# Altium schematic symbol library WULPUS_HV_PCB_V2.SCHLIB: 39 symbols
Pins are listed as number, name and electrical type; pins without a type are passive.

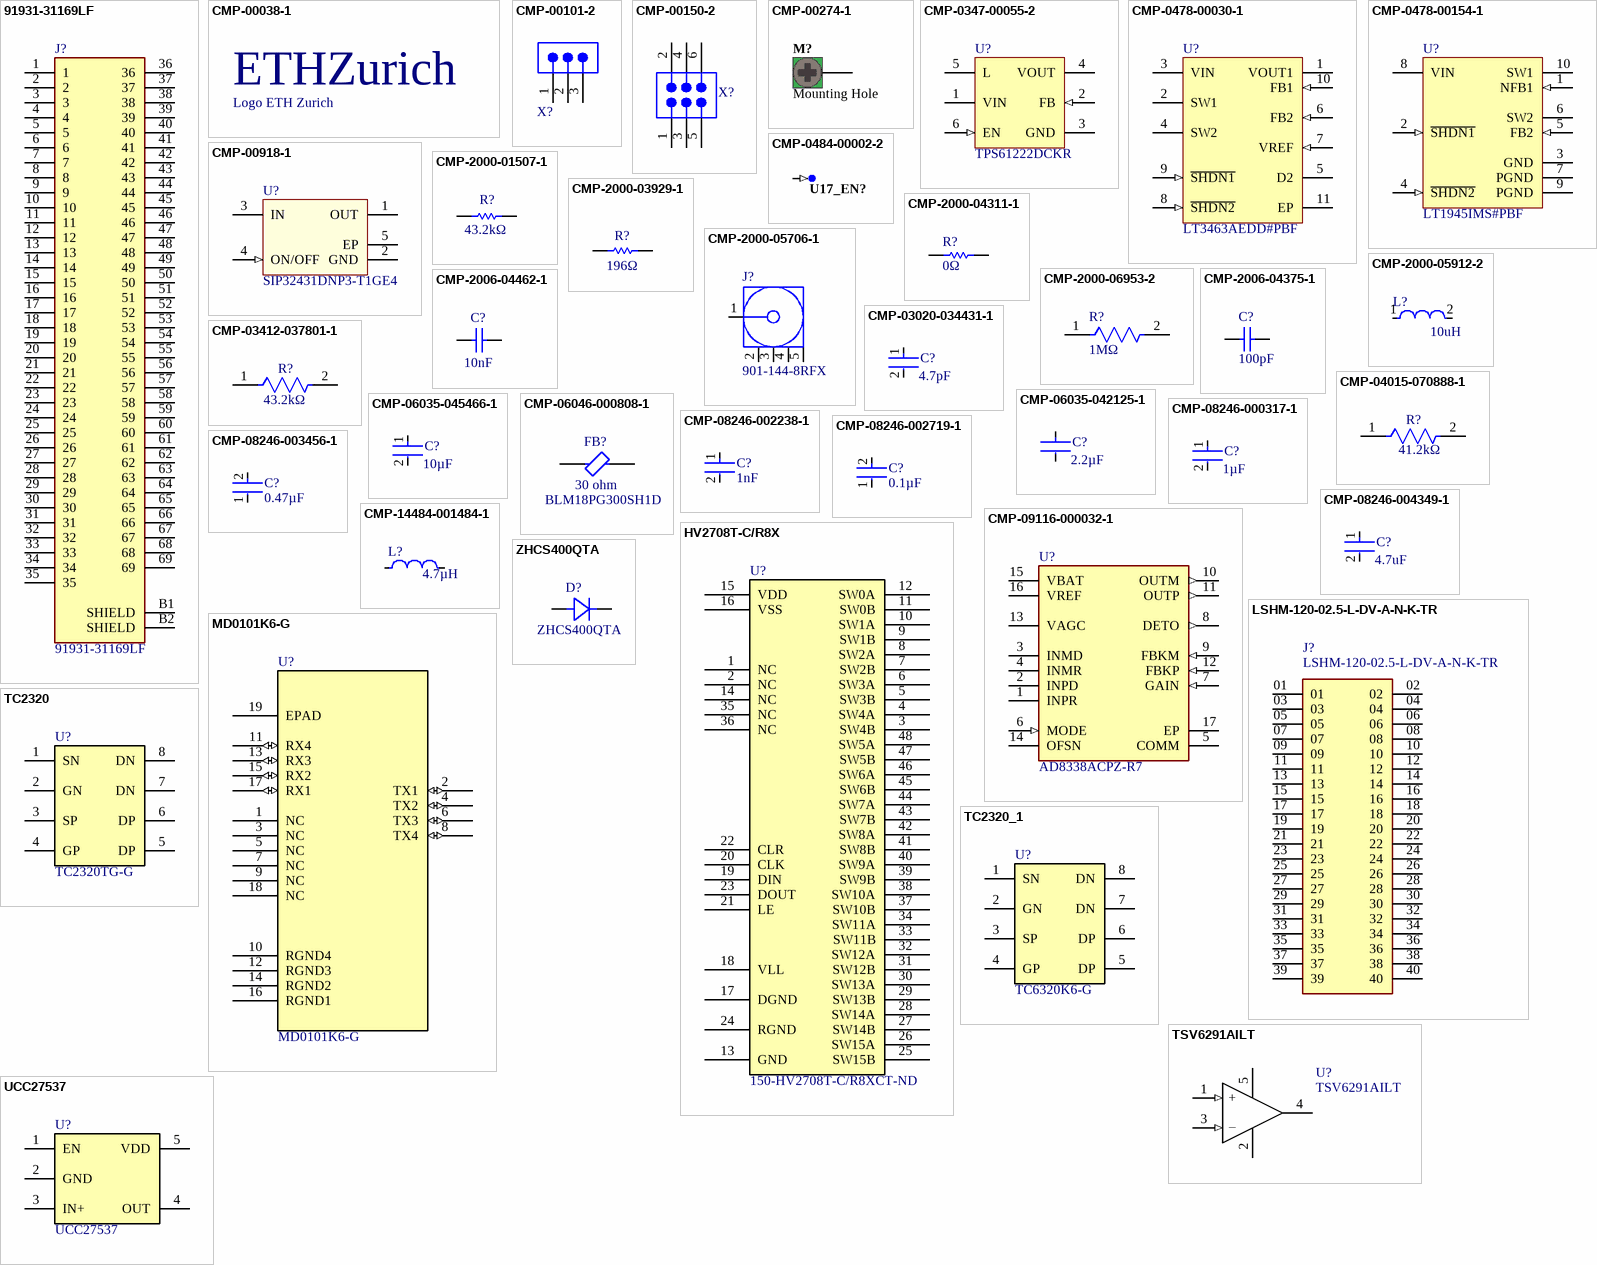
[diagram p0: symbols 91931-31169LF to ZHCS400QTA]

## 91931-31169LF
designator J?
Conn; Rect; Industrial; MezzanineRECP; 69Cnts; SMT; I-IndustrialSeries; Package: None; Price: None; Value: *; MP: 91931-31169LF; Availability: Unavailable
footprint FRAMETOME_91931-31169LF
footprint FRAMETOME_91931-31169LF
pins: 1, 2, 3, 4, 5, 6, 7, 8, 9, 10, 11, 12, 13, 14, 15, 16, 17, 18, 19, 20, 21, 22, 23, 24, 25, 26, 27, 28, 29, 30, 31, 32, 33, 34, 35, 36, 37, 38, 39, 40, 41, 42, 43, 44, 45, 46, 47, 48, 49, 50, 51, 52, 53, 54, 55, 56, 57, 58, 59, 60, 61, 62, 63, 64, 65, 66, 67, 68, 69, B1 SHIELD, B2 SHIELD

## CMP-00038-1
designator A?, comment Logo ETH Zurich  (no BOM)
footprint eth-zurich_2mm (Logo ETH Zurich)
footprint eth-zurich_4mm (Logo ETH Zurich)
footprint eth-zurich_5mm (Logo ETH Zurich)
footprint eth-zurich_3mm (Logo ETH Zurich)
text: ETHZurich

## CMP-00101-2
designator X?, comment 68000-103HLF  (value not drawn)
3 Positions Header, Unshrouded Connector 0.100" (2.54mm) Through Hole Gold or Gold, GXT™; Manufacturer: Amphenol FCI; Manufacturer: Amphenol ICC / FCI; Manufacturer Part Number: 68000-203HLF; Current Rating: 3A; Insulation Resistance: 5GR; Number of Positions: 3; Max Voltage Rating (AC): 1.5kV; Termination: Solder; Fastening Type: -; Features: -; Contact Finish: Gold or Gold, GXT™; Contact Finish Thickness: 15µin (0.38µm); Color: Black; Supplier: Digikey; Supplier Part Number: 609-3461-ND; ComponentLink1Description: 68000-274283-5157301.pdf; ComponentLink1URL: https://datasheet.ciiva.com/5157/68000-274283-5157301.pdf; Depth: 2.41mm; Flammability Rating: UL94 V-0; Housing Colour: Black; Housing Material: Thermoplastic; Length: 7.62mm; Manufacturer Part Number: 68000-103HLF; Max Operating Temperature: 125°C; Packaging: Bulk; Contact Type: Male Pin; Connector Type: Header, Unshrouded; Pitch: 2.54mm; Number of Rows: 1; Contact Mating Length: 0.230" (5.84mm); Mounting Type: Through Hole; Min Operating Temperature: -65°C; Number of Contacts: 3; Orientation: Straight; Package Quantity: 100; Radiation Hardening: No; REACH SVHC: No SVHC; Termination Post Length: 2.41mm; Voltage Rating: 1.5kV; Contact Gender: Male; Contact Material: Bronze; Contact Plating: Nickel,Gold,GXT; ComponentLink2Description: 68000-731071.pdf; ComponentLink2URL: https://datasheet.ciiva.com/731/68000-731071.pdf; ComponentLink3Description: 68000-10149754.pdf; ComponentLink3URL: https://datasheet.ciiva.com/10149/68000-10149754.pdf; ComponentLink4Description: 1914865-46392021.pdf; ComponentLink4URL: https://datasheet.ciiva.com/46392/1914865-46392021.pdf
footprint 68000-103HLF (Terminal Assembly, 3 Pin, Vertical, 2.54mm Pitch, Male)
pins: 1, 2, 3

## CMP-00150-2
designator X?, comment 67996-106HLF  (value not drawn)
6 Positions Header, Unshrouded Connector 0.100" (2.54mm) Through Hole Gold or Gold, GXT™; Manufacturer: Amphenol FCI; Manufacturer: Amphenol ICC / FCI; Manufacturer Part Number: 67996-206HLF; Connector Type: Male Pin; Number of Positions: 6; Row Spacing: 0.1inch; Current Rating: 3A; Gender: Male; Insulation Resistance: 5GR; Mating Post Length: 5.84mm; Max Voltage Rating (AC): 1.5kV; Packaging: Bulk; Pitch: 2.54mm; Number of Rows: 2; Contact Mating Length: 0.23inch; Termination: Solder; Manufacturer Part Number: 67996-106HLF; Supplier: Digikey; Supplier Part Number: 609-3202-ND; ComponentLink1Description: 67996-16726269.pdf; ComponentLink1URL: https://datasheet.ciiva.com/16726/67996-16726269.pdf; Case/Package: 100; Colour: Black; ComponentLink2Description: 1876884-46393071.pdf; ComponentLink2URL: https://datasheet.ciiva.com/46393/1876884-46393071.pdf; ComponentLink3Description: 67996-728918.pdf; ComponentLink3URL: https://datasheet.ciiva.com/728/67996-728918.pdf; ComponentLink4Description: 67996-10149181.pdf; ComponentLink4URL: https://datasheet.ciiva.com/10149/67996-10149181.pdf; Contact Gender: Male; Contact Material: Bronze; Contact Plating: Nickel,Gold,GXT; Depth: 4.83mm; Flammability Rating: UL94 V-0; Housing Colour: Black; Housing Material: Thermoplastic; Length: 7.62mm; Max Operating Temperature: 125°C; Min Operating Temperature: -65°C; Number of Contacts: 6; Orientation: Straight; Package Quantity: 100; Radiation Hardening: No; REACH SVHC: No SVHC; Termination Post Length: 2.41mm; Voltage Rating: 1.5kV
footprint 67996-106HLF (Terminal Assembly, 2x3 Pin, Vertical, 2.54mm Pitch, Male)
pins: 1, 2, 3, 4, 5, 6

## CMP-00274-1
designator M?, comment Mounting Hole  (no BOM)
M2 Hole, 2.4mm drill, 5mm landing pads, 3mm pad in middle layers, no overlay; ClassName: Mounting Hole
footprint Mounting Hole (M2 Hole, 2.4mm drill, 5mm landing pads, 3mm pad in middle layers, no overlay)
pins: 1

## CMP-0347-00055-2
designator U?, comment TPS61222DCKR
Boost Voltage Converter with 0.7 to 5.5 V Input and 5 V Output, -40 to 85 degC, 6-Pin SC70 (DCK), Green (RoHS & no Sb/Br); Manufacturer: Texas Instruments; Vout(Min)(V): 5; SubFamily: Step-Up Regulator; Vin(Min)(V): 0.7; Switching Frequency(Max)(kHz): 2000; Regulated Outputs(#): 1; Vin(Max)(V): 5.5; Topology: Boost; Vout(Max)(V): 5; PackageVersion: revG, Jan-2007; Mounting Technology: Surface Mount; ComponentLink2URL: http://www.ti.com/litv/pdf/mpds114c; PackageReference: DCK0006A; DatasheetVersion: SLVS776; PartNumber: TPS61222DCKR; ComponentLink1Description: Datasheet; ComponentLink1URL: http://www.ti.com/general/docs/lit/getliterature.tsp?genericPartNumber=TPS61222&fileType=pdf; ComponentLink2Description: Package Specification; Eco-Plan: Green (RoHS & no Sb/Br); Code_JEDEC: MO-203-AB; PackageDescription: 6-Pin Plastic Small-Outline Package, 2 x 1.3 mm Body, 0.65 mm Pitch, 2.1 mm Lead Span; Manufacturer Part Number: TPS61222DCKR
footprint DCK0006A_L (SOT23, 6-Leads, Body 2.15x1.4mm, Pitch 0.65mm, IPC High Density)
footprint DCK0006A_N (SOT23, 6-Leads, Body 2.15x1.4mm, Pitch 0.65mm, IPC Medium Density)
footprint DCK0006A_M (SOT23, 6-Leads, Body 2.15x1.4mm, Pitch 0.65mm, IPC Low Density)
pins: 1 VIN (power) "Boost converter input voltage", 2 FB (in) "Voltage feedback of adjustable version. Must be connected to VOUT at fixed output voltage versions.", 3 GND (power) "Control / logic and power ground", 4 VOUT (power) "Boost converter output voltage", 5 L (power) "Connection for Inductor", 6 EN (in) "Enable input (1: enabled, 0: disabled). Must be actively tied high or low."

## CMP-0478-00030-1
designator U?, comment LT3463AEDD#PBF
Dual Micropower DC/DC Converters with Schottky Diodes, 2.4 to 15 V Vin, 10-pin SON (DD-10), -40 to 85 degC, Pb-Free; Manufacturer: Linear Technology; Manufacturer: Analog Devices / Linear Technology; Vin Max(V): 15; Number of Outputs: 2; Vin Min(V): 2.4; ComponentLink3URL: http://cds.linear.com/docs/en/packaging/DFN_10_05-08-1699.pdf; ComponentLink2URL: http://cds.linear.com/docs/en/datasheet/3463f.pdf; PackageReference: DD-10; PackageVersion: Rev. C, 06/2010; ComponentLink1URL: http://www.linear.com/; RoHS: TRUE; ComponentLink3Description: Package Specification; Mounting Technology: Surface Mount; PartNumber: LT3463AEDD#PBF; Code_JEDEC: MO-229; ComponentLink2Description: Datasheet; PackageDescription: 10-Pin Plastic DFN, Body 3 x 3 mm, Pitch 0.5 mm; ComponentLink1Description: Manufacturer URL; Manufacturer Part Number: LT3463AEDD#PBF
footprint LT-DD-10_V (SON, 10-Leads, Body 3x3mm, Pitch 0.5mm, Thermal Pad 2.38x1.65mm)
pins: 1 VOUT1 (power) "Output Voltage Switcher 1. This is the cathode of an internal Schottky diode whose anode is connected to the SW1 pin.", 2 SW1 "Switch Pin for Switcher 1. This is the collector of the internal NPN switch. Minimize the metal trace area connected to this pin to minimize EMI.", 3 VIN (power) "Input Supply Pin. Bypass this pin with a capacitor as close to the device as possible.", 4 SW2 "Switch Pin for Switcher 2. This is the collector of the internal NPN switch. Minimize the metal trace area connected to this pin to minimize EMI.", 5 D2 "Diode for Switcher 2. This is the anode of an internal Schottky diode whose cathode connected to the GND pin.", 6 FB2 (in) "Feedback Pin for Switcher 2. Set the output voltage by selecting values for R3 and R4.", 7 VREF (in) "Voltage Reference Pin (1.25V). This pin is used along with FB2 to set the negative output voltage for Switcher 2.", 8 ~{SHDN2} (in) "Shutdown Pin for Switcher 2. Pull this pin above 1.5V to enable Switcher 2. Pull below 0.3V to turn it off. Do not leave this pin floating.", 9 ~{SHDN1} (in) "Shutdown Pin for Switcher 1. Pull this pin above 1.5V to enable Switcher 1. Pull below 0.3V to turn it off. Do not leave this pin floating.", 10 FB1 (in) "Feedback Pin for Switcher 1. Set the output voltage by selecting values for R1 and R2.", 11 EP (power) "Exposed Pad. Solder this exposed pad directly to the local ground plane. This pad must be electrically connected for proper operation."

## CMP-0478-00154-1
designator U?, comment LT1945IMS#PBF
Dual Micropower DC/DC Converter with Positive and Negative Outputs, 1.2 to 15 V Vin, 10-pin SOP (MS-10), -40 to 125 degC, Pb-Free; Manufacturer: Linear Technology; Manufacturer: Analog Devices / Linear Technology; Vin Min(V): 1.2; Vin Max(V): 15; Number of Outputs: 2; Mounting Technology: Surface Mount; ComponentLink3Description: Package Specification; ComponentLink3URL: http://cds.linear.com/docs/en/packaging/05081661_F_MS.pdf; PackageVersion: Rev. E, 06/2010; ComponentLink2URL: http://cds.linear.com/docs/en/datasheet/1945fa.pdf; PartNumber: LT1945IMS#PBF; DatasheetVersion: Rev. A; PackageReference: MS-10; PackageDescription: 10-Pin Plastic MSOP, Body 3 x 3 mm, Pitch 0.5 mm; ComponentLink2Description: Datasheet; RoHS: TRUE; ComponentLink1URL: http://www.linear.com/; ComponentLink1Description: Manufacturer URL; Manufacturer Part Number: LT1945IMS#PBF
footprint LT-MS-10_L (SOP, 10-Leads, Body 3.1x3.1mm, Pitch 0.5mm, IPC High Density)
footprint LT-MS-10_M (SOP, 10-Leads, Body 3.1x3.1mm, Pitch 0.5mm, IPC Low Density)
footprint LT-MS-10_N (SOP, 10-Leads, Body 3.1x3.1mm, Pitch 0.5mm, IPC Medium Density)
pins: 1 NFB1 (in) "Feedback Pin for Switcher 1. Set the output voltage by selecting values for R1 and R2.", 2 ~{SHDN1} (in) "Shutdown Pin for Switcher 1. Tie this pin to 0.9V or higher to enable device. Tie below 0.25V to turn it off.", 3 GND (power) "Ground. Tie this pin directly to the local ground plane.", 4 ~{SHDN2} (in) "Shutdown Pin for Switcher 2. Tie this pin to 0.9V or higher to enable device. Tie below 0.25V to turn it off.", 5 FB2 (in) "Feedback Pin for Switcher 2. Set the output voltage by selecting values for R1B and R2B.", 6 SW2 (power) "Switch Pin for Switcher 2. This is the collector of the internal NPN power switch. Minimize the metal trace area connected to the pin to minimize EMI.", 7 PGND (power) "Power Ground. Tie these pins directly to the local ground plane. Both pins must be tied.", 8 VIN (power) "Input Supply Pin. Bypass this pin with a capacitor as close to the device as possible.", 9 PGND (power) "Power Ground. Tie these pins directly to the local ground plane. Both pins must be tied.", 10 SW1 (power) "Switch Pin for Switcher 1. This is the collector of the internal NPN power switch. Minimize the metal trace area connected to the pin to minimize EMI."

## CMP-0484-00002-2
designator U17_EN?, comment TP-SM-C-100  (value not drawn)  (no BOM)
Test Point, Surface Mount, Circular, Pad Diameter 1 mm; Manufacturer: No Vendor; Manufacturer: ALTIUM; PartNumber: TP-SM-C-100; Manufacturer Part Number: TP-SM-C-100
footprint TP-SM-C-100 (Test Point, Surface Mounting, Circular, Pad Diameter 1mm)
pins: 1 (in)

## CMP-00918-1
designator U?, comment SIP32431DNP3-T1GE4
Power Switch ICs - Power Distribution 1A Slew Rate Ctrl Load Switch; Manufacturer: Vishay Siliconix; Number of Outputs: 1; Max Power Dissipation: 324mW; Max Supply Voltage: 5.5V; Min Supply Voltage: 1.1V; Interface: On/Off; Max Output Current: 1.4A; On-State Resistance: 520mR; Turn-Off Delay Time: 10us; Turn-On Delay Time: 40us; Fault Protection: Reverse Current; Output Configuration: High Side; Mount: Surface Mount; Number of Pins: 4; Weight: 0.001764oz; Min Operating Temperature: -40°C; Max Operating Temperature: 85°C; Output Current: 1A; Packaging: Tape and Reel; Package Quantity: 3000; Power Dissipation: 324mW; Radiation Hardening: No; Lead Free: Lead Free; Manufacturer Part Number: SIP32431DNP3-T1GE4
footprint TDFN-4_V (TDFN, 4-Leads, Body 1.2x1.6mm, Pitch 0.5mm, Thermal Pad 0.86x0.5mm)
pins: 1 OUT (power), 2 GND (power), 3 IN (power), 4 ON/OFF (in), 5 EP (power)

## CMP-2000-01507-1
designator R?, comment Resistance: 43.2kΩ  (hidden comment: RK73H1JTTD4322F)
Manufacturer: KOA Speer; Part Number: RK73H1JTTD4322F; Manufacturer Part Number: RK73H1JTTD4322F
footprint RESC1608X55X30ML20T10 (Chip Resistor, 2-Leads, Body 1.60x0.80mm, IPC Low Density)
footprint RESC1608X55X30LL20T10 (Chip Resistor, 2-Leads, Body 1.60x0.80mm, IPC High Density)
footprint RESC1608X55X30NL20T10 (Chip Resistor, 2-Leads, Body 1.60x0.80mm, IPC Medium Density)
pins: 1, 2
1 alternate drawing of the same symbol

## CMP-2000-03929-1
designator R?, comment Resistance: 196Ω  (hidden comment: RC0603FR-07196RL)
Manufacturer: Yageo; Part Number: RC0603FR-07196RL; Manufacturer Part Number: RC0603FR-07196RL
footprint RESC1608X55X25NL10T15 (Chip Resistor, 2-Leads, Body 1.60x0.80mm, IPC Medium Density)
footprint RESC1608X55X25ML10T15 (Chip Resistor, 2-Leads, Body 1.60x0.80mm, IPC Low Density)
footprint RESC1608X55X25LL10T15 (Chip Resistor, 2-Leads, Body 1.60x0.80mm, IPC High Density)
pins: 1, 2
1 alternate drawing of the same symbol

## CMP-2000-04311-1
designator R?, comment Resistance: 0Ω  (hidden comment: RC0603JR-130RL)
Manufacturer: Yageo; Part Number: RC0603JR-130RL; Manufacturer Part Number: RC0603JR-130RL
footprint RESC1608X55X25NL10T15 (Chip Resistor, 2-Leads, Body 1.60x0.80mm, IPC Medium Density)
footprint RESC1608X55X25LL10T15 (Chip Resistor, 2-Leads, Body 1.60x0.80mm, IPC High Density)
footprint RESC1608X55X25ML10T15 (Chip Resistor, 2-Leads, Body 1.60x0.80mm, IPC Low Density)
pins: 1, 2
1 alternate drawing of the same symbol

## CMP-2000-05706-1
designator J?, comment 901-144-8RFX
Coaxial Connector, 18 GHz, 50 Ohm, -65 to 165 degC, 5-Pin THD, RoHS, Bulk; Manufacturer: Amphenol; Manufacturer: Amphenol RF; Contact Termination: Solder; Dielectric Material: Polytetrafluoroethylene(PTFE); Frequency - Max: 18GHz; Body Material: Brass; Other Names: 901-144-8-RFX9011448RFXARFX1231; Center Contact Plating: Gold; Connector Type: Jack,FemaleSocket; Center Contact Material: BerylliumCopper; Impedance: 50Ohm; 3D Model: 901-144-8RFX.igs; Online Catalog: SMA,RFX; Connector Style: SMA; Category: Connectors,Interconnects; Housing Color: Gold; Mounting Type: ThroughHole; Ingress Protection: -; Packaging: Bulk; Features: -; Fastening Type: Threaded; Series: -; Standard Package: 1; Shield Termination: Solder; Mounting Technology: SurfaceMount; Family: CoaxialConnectors(RF); Package Reference: 901-144-8RFX; Datasheet URL: https://datasheet.ciiva.com/23676/c901-144-8rfx-23676337.pdf; Package Description: 5-Pin Through Hole Device, Body 7 x 7 mm, Pitch 2.54 mm; Cable Group: -; Datasheet Version: Rev. A, 01/2001; Body Finish: Gold; Operating Temperature: -65°C~165°C; Voltage Rating: -; Manufacturer URL: http://www.amphenol.com/; Manufacturer Part Number: 901-144-8RFX
footprint AMPH-901-144-8RFX_V (THD, 5-Leads, Body 7x7mm, Pitch 2.54mm)
pins: 1, 2, 3, 4, 5

## CMP-2000-05912-2
designator L?, comment Inductance: 10uH  (hidden comment: B82422A1103K100)
FIXED IND 10UH 180MA 1.6 OHM SMD; Manufacturer: TDK EPCOS; Tolerance: 10%; DC Resistance (DCR): 1.6R; Shielding: Unshielded; Core Material: Ferrite; Q Factor: 27; Self Resonant Frequency: 25MHz; Test Frequency: 1MHz; Series: SIMID; Current Rating: 180mA; Ratings: AEC-Q200; Height - Seated (Max): 0.083inch; Packaging: Tape and Reel; Radiation Hardening: No; REACH SVHC: No SVHC; Width: 0.098inch; RoHS Compliant: Yes; Case/Package: 1210; DC Current: 180mA; Package Quantity: 2000; Rated Current-Max: 180mA; Mount: Surface Mount; Depth: 2.8mm; Resistor Type: Wirewound; Max DC Current: 180mA; Termination: SMD/SMT; Contact Plating: Tin; Height: 2.1mm; Case Code (Metric): 3225; Lead Free: Lead Free; Weight: 0.001764oz; Max Operating Temperature: 125°C; Length: 3.5mm; Case Code (Imperial): 1210; Inductance Tolerance: 10%; Series Resistance: 1.6R; Number of Pins: 2; Military Standard: Not; Manufacturer Part Number: B82422A1103K100
footprint FP-B82422A-MFG
pins: 1, 2

## CMP-2000-06953-2
designator R?, comment Resistance: 1MΩ  (hidden comment: RC0603JR-071ML)
RES SMD 1M OHM 5% 1/10W 0603; Manufacturer: Yageo; Voltage Rating (DC): 50V; Power Rating: 100mW; Temperature Coefficient: 100ppm/°C; Features: Moisture Resistant; Package Quantity: 5000; Case Code (Imperial): 0603; Packaging: Tape and Reel; Resistor Type: Thick Film; Number of Pins: 2; Size Code: 0603; Resistance Tolerance: 5%; Max Operating Temperature: 155°C; Voltage Rating: 50V; Depth: 0.8mm; Termination: SMD/SMT; Width: 0.8mm; RoHS Compliant: Yes; Number of Terminations: 2; Height: 0.45mm; Lead Free: Lead Free; Case/Package: 0603; Military Standard: Not; Min Operating Temperature: -55°C; Case Code (Metric): 1608; Radiation Hardening: No; Series: RC; Length: 1.6mm; Tolerance: 5%; REACH SVHC: No SVHC; Contact Plating: Tin; Construction: Rectangular; Max Power Dissipation: 100mW; Manufacturer Part Number: RC0603JR-071ML
footprint FP-RC0603-0_55-IPC_C
footprint FP-RC0603-0_55-IPC_A
footprint FP-RC0603-0_55-MFG
footprint FP-RC0603-0_55-IPC_B
pins: 1, 2

## CMP-2006-04375-1
designator C?, comment Capacitance: 100pF  (hidden comment: 06035C101KAT2A)
Manufacturer: AVX Interconnect / Elco; Manufacturer: Kyocera AVX; Part Number: 06035C101KAT2A; Manufacturer Part Number: 06035C101KAT2A
footprint CAPC1608X90X35LL15T15 (Chip Capacitor, 2-Leads, Body 1.60x0.81mm, IPC High Density)
footprint CAPC1608X90X35NL15T15 (Chip Capacitor, 2-Leads, Body 1.60x0.81mm, IPC Medium Density)
footprint CAPC1608X90X35ML15T15 (Chip Capacitor, 2-Leads, Body 1.60x0.81mm, IPC Low Density)
pins: 1, 2
1 alternate drawing of the same symbol

## CMP-2006-04462-1
designator C?, comment Capacitance: 10nF  (hidden comment: 06035D103KAT2A)
Manufacturer: AVX Interconnect / Elco; Manufacturer: Kyocera AVX; Part Number: 06035D103KAT2A; Manufacturer Part Number: 06035D103KAT2A
footprint CAPC1608X90X35NL15T15 (Chip Capacitor, 2-Leads, Body 1.60x0.81mm, IPC Medium Density)
footprint CAPC1608X90X35LL15T15 (Chip Capacitor, 2-Leads, Body 1.60x0.81mm, IPC High Density)
footprint CAPC1608X90X35ML15T15 (Chip Capacitor, 2-Leads, Body 1.60x0.81mm, IPC Low Density)
pins: 1, 2
1 alternate drawing of the same symbol

## CMP-03020-034431-1
designator C?, comment Capacitance: 4.7pF  (hidden comment: C0603C479K5GAC7867)
CAP CER 4.7PF 50V NP0 0603; Manufacturer: KEMET; Automotive Grade: Grade 1; Material: Ceramic; Temperature Coefficient: 30ppm/°C; Temperature Characteristic: C0G; Tolerance: 0.1; Device Class L2: Capacitors; Temperature Range High: +125°C; Octopart: https://octopart.com/c0603c479k5gac7867-kemet-2009260; Temperature: -55°C to +125°C; Manufacturer Part Number: C0603C479K5GAC7867; Device Class L1: Passive Components; Temperature Range Low: -55°C; ComponentLink2Description: Datasheet; Automotive: Yes; Voltage Rating: 50 V; Height: 0.87mm; RoHS: TRUE; Digikey Description: CAP CER 4.7PF 50V NP0 0603; ComponentLink2URL: https://api.kemet.com/component-edge/download/datasheet/C0603C100J5GACAUTO.pdf; Lead Free: Yes; Package: C0603C-CF; Device Class L3: Ceramic Capacitors; Category: Cap; Value: 4.7 pF
footprint FP-C0603C-CF-MFG
footprint FP-C0603C-CF-IPC_C
footprint FP-C0603C-CF-IPC_B
footprint FP-C0603C-CF-IPC_A
pins: 1, 2

## CMP-03412-037801-1
designator R?, comment Resistance: 43.2kΩ  (hidden comment: RC0603FR-0743K2L)
RES SMD 43.2K OHM 1% 1/10W 0603; Manufacturer: Yageo; Power Rating: 100mW; Voltage Rating (DC): 50V; Temperature Coefficient: 100ppm/°C; Depth: 0.8mm; Resistor Type: Thick Film; Mount: Surface Mount; Height: 0.45mm; Termination: SMD/SMT; Case Code (Imperial): 0603; Case Code (Metric): 1608; Case/Package: 0603; Length: 1.6mm; Min Operating Temperature: -55°C; Max Power Dissipation: 100mW; Construction: Rectangular; Lead Free: Lead Free; Features: Moisture Resistant; Technology: THICK FILM; RoHS Compliant: Yes; Packaging: Tape and Reel; Package Quantity: 1; Width: 0.031inch; Tolerance: 1%; Number of Terminations: 2; Series: RC; Voltage Rating: 50V; Max Operating Temperature: 155°C; Size Code: 0603; Military Standard: Not; Manufacturer Part Number: RC0603FR-0743K2L
footprint FP-RC0603-0_55-MFG
footprint FP-RC0603-0_55-IPC_A
footprint FP-RC0603-0_55-IPC_B
footprint FP-RC0603-0_55-IPC_C
pins: 1, 2

## CMP-04015-070888-1
designator R?, comment Resistance: 41.2kΩ  (hidden comment: RK73H1JTTDD4122D)
41.2kΩ ±0.5% 0.1W Chip Resistor 0603 Thick Film AEC-Q200 Qualified; Manufacturer: KOA Speer; Power Rating: 100mW; Voltage Rating: 50V; Temperature Coefficient: 100ppm/°C; Packaging: Tape and Reel; RoHS Compliant: Yes; Case Code (Imperial): 0603; Termination: SMD/SMT; Case Code (Metric): 1608; Max Operating Temperature: 155°C; Length: 1.6mm; Height: 0.45mm; Min Operating Temperature: -55°C; Case/Package: 0603; Width: 0.8mm; Resistor Type: Thick Film; Series: RK73H; Tolerance: 0.5%; Weight: 7.1E-05oz; Manufacturer Part Number: RK73H1JTTDD4122D
footprint FP-RK73H1J-IPC_A
footprint FP-RK73H1J-IPC_B
footprint FP-RK73H1J-IPC_C
footprint FP-RK73H1J-MFG
pins: 1, 2

## CMP-06035-042125-1
designator C?, comment Capacitance: 2.2µF  (hidden comment: GRM188R61H225KE11D)
Chip Multilayer Ceramic Capacitors for General Purpose, 0603, 2.2uF, X5R, 15%, 10%, 50V; Manufacturer: Murata; Case Code (Metric): 1608; Packaging: Cut Tape; REACH SVHC: No SVHC; Material: Ceramic; Voltage Rating: 50V; Min Operating Temperature: -55°C; Length: 0.063inch; Case Code (Imperial): 0603; Tolerance: 10%; Thickness: 0.039inch; Height: 0.8mm; Case/Package: 0603; Voltage Rating (DC): 50V; Dielectric: X5R; Mount: Surface Mount; Max Operating Temperature: 85°C; Width: 0.031inch; Manufacturer Part Number: GRM188R61H225KE11D
footprint FP-GRM188-0_2-IPC_C
footprint FP-GRM188-0_2-IPC_A
footprint FP-GRM188-0_2-IPC_B
footprint FP-GRM188-0_2-MFG
pins: 1, 2

## CMP-06035-045466-1
designator C?, comment Capacitance: 10µF  (hidden comment: GRM188R6YA106MA73D)
Chip Multilayer Ceramic Capacitors for General Purpose, 0603, 10uF, X5R, 15%, 20%, 35V; Manufacturer: Murata; Case Code (Imperial): 0603; Voltage Rating (DC): 35V; Width: 0.031inch; Dielectric: X5R; Voltage Rating: 35V; Min Operating Temperature: -55°C; Thickness: 0.039inch; Mount: Surface Mount; Case/Package: 0603; Length: 0.063inch; Max Operating Temperature: 85°C; Packaging: Tape and Reel; Tolerance: 20%; Case Code (Metric): 1608; Manufacturer Part Number: GRM188R6YA106MA73D
footprint FP-GRM188-0_2-IPC_C
footprint FP-GRM188-0_2-IPC_A
footprint FP-GRM188-0_2-MFG
footprint FP-GRM188-0_2-IPC_B
pins: 1, 2

## CMP-06046-000808-1
designator FB?, comment BLM18PG300SH1D  Impedance: 30 ohm
Chip Ferrite Bead, 0603, 30Ω @ 100MHz, 0.05Ω, , 1A; Manufacturer: Murata; Tolerance: 25%; Shielding: Unshielded; DC Resistance (DCR): 50mR; Number of Lines: 1; Width: 0.031inch; Termination: SMD/SMT; Case Code (Metric): 1608; Max DC Current: 1A; Case Code (Imperial): 0603; Height: 0.037inch; Max Operating Temperature: 125°C; Max Current Rating: 1A; Case/Package: 0603; Length: 1.6mm; Number of Circuits: 1; Test Frequency: 100MHz; Contact Plating: Tin; Ratings: AEC-Q200; Package Quantity: 1; Mount: Surface Mount; Packaging: Tape and Reel; Min Operating Temperature: -55°C; Manufacturer Part Number: BLM18PG300SH1D
footprint FP-BLM18-0_15-t0_8-IPC_A
footprint FP-BLM18-0_15-t0_8-IPC_B
footprint FP-BLM18-0_15-t0_8-MFG
footprint FP-BLM18-0_15-t0_8-IPC_C
pins: 1, 2

## CMP-08246-000317-1
designator C?, comment Capacitance: 1µF  (hidden comment: CGA3E3X5R1H105K)
Cap Ceramic 1uF 50V X5R 10% Pad SMD 0603 +85°C Automotive T/R; Manufacturer: TDK; Termination: SMD/SMT; Tolerance: 10%; Case Code (Metric): 1608; Max Operating Temperature: 85°C; Case/Package: 0603; Voltage Rating: 50V; Dielectric: X5R; Case Code (Imperial): 0603; Packaging: Tape and Reel; Min Operating Temperature: -55°C; Voltage Rating (DC): 50V; Manufacturer Part Number: CGA3E3X5R1H105K
footprint FP-CGA3E-0_3-0_1-IPC_B
footprint FP-CGA3E-0_3-0_1-MFG
footprint FP-CGA3E-0_3-0_1-IPC_C
footprint FP-CGA3E-0_3-0_1-IPC_A
pins: 1, 2

## CMP-08246-002238-1
designator C?, comment Capacitance: 1nF  (hidden comment: TDK CGA3E2X5R1H102K080AA)
Cap Ceramic 1nF 50V X5R 10% Pad SMD 0603 +85°C Automotive T/R; Min Operating Temperature: -55°C; Packaging: Tape and Reel; Package Quantity: 4000; Case Code (Metric): 1608; Ratings: AEC-Q200; Height: 0.8mm; Case/Package: 0603; Width: 0.031inch; Voltage Rating (DC): 50V; Termination: SMD/SMT; Mount: Surface Mount; Case Code (Imperial): 0603; Max Operating Temperature: 85°C; Weight: 7.1E-05oz; Length: 0.063inch; Voltage Rating: 50V; Dielectric: X5R; Thickness: 0.035inch; Tolerance: 10%; Manufacturer: TDK; Manufacturer Part Number: CGA3E2X5R1H102K080AA
footprint FP-CGA3E-0_3-0_1-IPC_A
footprint FP-CGA3E-0_3-0_1-IPC_B
footprint FP-CGA3E-0_3-0_1-IPC_C
footprint FP-CGA3E-0_3-0_1-MFG
pins: 1, 2

## CMP-08246-002719-1
designator C?, comment Capacitance: 0.1µF  (hidden comment: C1608X5R1H104K080AA)
Multilayer Ceramic Capacitors 100nF ±10% 50V X5R SMD 0603; Manufacturer: TDK; Radiation Hardening: No; Length: 1.6mm; Package Quantity: 1; Thickness: 0.035inch; Max Operating Temperature: 85°C; Series: C; RoHS Compliant: Yes; Weight: 7.1E-05oz; Resistor Type: Ceramic; Case/Package: 0603; Voltage Rating: 50V; Tolerance: 10%; Width: 0.031inch; Voltage Rating (DC): 50V; Termination: SMD/SMT; Case Code (Metric): 1608; Construction: Flat; Mount: Surface Mount; Dielectric Material: Ceramic; Number of Pins: 2; Lead Free: Lead Free; Packaging: Tape and Reel; Min Operating Temperature: -55°C; Dielectric: X5R; Case Code (Imperial): 0603; Depth: 0.8mm; Height: 0.8mm; REACH SVHC: No SVHC; Manufacturer Part Number: C1608X5R1H104K080AA
footprint FP-C1608-080-0_1-MFG
footprint FP-C1608-080-0_1-IPC_A
footprint FP-C1608-080-0_1-IPC_C
footprint FP-C1608-080-0_1-IPC_B
pins: 1, 2

## CMP-08246-003456-1
designator C?, comment Capacitance: 0.47µF  (hidden comment: C1608X5R1H474K080AB)
Multilayer Ceramic Capacitors 470nF ±10% 50V X5R SMD 0603; Manufacturer: TDK; Termination: SMD/SMT; Weight: 7.1E-05oz; Depth: 0.8mm; Mount: Surface Mount; Voltage Rating (DC): 50V; RoHS Compliant: Yes; Dielectric: X5R; Voltage: 50V; Package Quantity: 1; Series: C; Max Operating Temperature: 85°C; Construction: Flat; Tolerance: 10%; Voltage Rating: 50V; Packaging: Tape and Reel; Number of Pins: 2; Case Code (Imperial): 0603; Resistor Type: Ceramic; Min Operating Temperature: -55°C; Height: 0.8mm; Case/Package: 0603; Dielectric Material: Ceramic; Radiation Hardening: No; Case Code (Metric): 1608; REACH SVHC: No SVHC; Thickness: 0.035inch; Width: 0.031inch; Length: 1.6mm; Lead Free: Lead Free; Manufacturer Part Number: C1608X5R1H474K080AB
footprint FP-C1608-080-0_1-IPC_C
footprint FP-C1608-080-0_1-IPC_B
footprint FP-C1608-080-0_1-MFG
footprint FP-C1608-080-0_1-IPC_A
pins: 1, 2

## CMP-08246-004349-1
designator C?, comment Capacitance: 4.7uF  (hidden comment: C1608X5R1V475K080AC)
CAP CER 4.7UF 35V X5R 0603; Manufacturer: TDK; Tolerance: 10%; Dielectric Material: Ceramic; Length: 0.063inch; Case/Package: 0603; Case Code (Metric): 1608; Packaging: Tape and Reel; Width: 0.031inch; Voltage Rating: 35V; Mount: Surface Mount; Package Quantity: 1; Depth: 0.8mm; Case Code (Imperial): 0603; Lead Free: Lead Free; Voltage Rating (DC): 35V; RoHS Compliant: Yes; Resistor Type: Ceramic; Series: C; Dielectric: X5R; Thickness: 0.039inch; Min Operating Temperature: -55°C; REACH SVHC: No SVHC; Max Operating Temperature: 85°C; Termination: SMD/SMT; Weight: 7.1E-05oz; Height: 0.8mm; Manufacturer Part Number: C1608X5R1V475K080AC
footprint FP-C1608-080-0_2-MFG
footprint FP-C1608-080-0_2-IPC_C
footprint FP-C1608-080-0_2-IPC_B
footprint FP-C1608-080-0_2-IPC_A
pins: 1, 2

## CMP-09116-000032-1
designator U?, comment AD8338ACPZ-R7
IC OPAMP VGA 1 CIRCUIT 16LFCSP; Manufacturer: Analog Devices; Nominal Supply Current: 3-6mA; Max Supply Voltage: 5V; Number Of Channels: 1; Output Current Per Channel: 5mA; Max Junction Temp: +150°C; Min Supply Voltage: 3V; Bandwidth: 18MHz; Voltage Gain: 80dB; Mouser Description: Special Purpose Amplifiers Ultra Low Pwr 18MHz SGL CH VGA; Device Class L2: Linear ICs; Ipc Land Pattern Name: QFN50P300X300X75-16; Temperature Range Low: -40°C; Device Class L1: Integrated Circuits (ICs); RoHS: TRUE; Digikey Description: IC OPAMP VGA 1 CIRCUIT 16LFCSP; Category: IC; ComponentLink2URL: https://www.analog.com/media/en/technical-documentation/data-sheets/AD8338.pdf; Automotive: No; Height: 0.8mm; Manufacturer Part Number: AD8338ACPZ-R7; Octopart: https://octopart.com/ad8338acpz-r7-analog+devices-21054770; Temperature: -40°C to +85°C; ComponentLink2Description: Datasheet; Lead Free: Yes; Temperature Range High: +85°C; Package: CP-16-22; Device Class L3: Amplifiers - Op Amps
footprint FP-CP-16-22-IPC_C
footprint FP-CP-16-22-IPC_B
footprint FP-CP-16-22-IPC_A
pins: 1 INPR, 2 INPD, 3 INMD, 4 INMR, 5 COMM (power), 6 MODE (in), 7 GAIN (in), 8 DETO (out), 9 FBKM (in), 10 OUTM (out), 11 OUTP (out), 12 FBKP (in), 13 VAGC (power), 14 OFSN, 15 VBAT (power), 16 VREF (power), 17 EP (power)

## CMP-14484-001484-1
designator L?, comment Inductance: 4.7µH  (hidden comment: NR3012T4R7M)
SMD Power Inductors 4.7uH ±20% 0.77A 0.13Ω; Manufacturer: Taiyo Yuden; Saturation Current: 770mA; Self Resonant Frequency: 48MHz; RMS Current (Irms): 980mA; Test Frequency: 100kHz; Core Material: Ferrite; Shielding: Shielded; DC Resistance (DCR): 156mR; Series: NR; Case Code (Metric): 3030; Halogen Free: Halogen Free; Tolerance: 20%; Resistor Type: Wirewound; Mount: Surface Mount; Case/Package: 1212; Max DC Current: 770mA; Length: 0.118inch; Height - Seated (Max): 0.047inch; Termination: SMD/SMT; Package Quantity: 2000; DC Current: 980mA; Depth: 3.1mm; Packaging: Tape and Reel; Height: 1.2mm; Current Rating: 980mA; Min Operating Temperature: -25°C; Case Code (Imperial): 1212; Lead Free: Lead Free; Military Standard: Not; Width: 0.118inch; Max Operating Temperature: 120°C; Radiation Hardening: No; Inductance Tolerance: 20%; RoHS Compliant: Yes; Manufacturer Part Number: NR3012T4R7M
footprint FP-NR3012-MFG
pins: 1, 2

## HV2708T-C/R8X
designator U?  Supplier Part Number 1: 150-HV2708T-C/R8XCT-ND  (hidden comment: HV2708T-C/R8X)
16-CH 200V No Hv Bias Switch (SPST), 1 Bleed Resistor 48 LQFP 7X7X1.4MM T/r Rohs Compliant: Yes; Manufacturer: Microchip; Supplier 1: Digi-Key; Manufacturer Part Number: HV2708T-C/R8X; RoHS: Yes; Category: Decoders and Multiplexers; Stock 1: 440; Pricing 1: 1=19.01000, 25=15.84720, 100=14.65500 (USD)
footprint LQFP48_7X7MC_MCH
footprint LQFP48_7X7MC_MCH
pins: 1 NC, 2 NC, 3 SW4B, 4 SW4A, 5 SW3B, 6 SW3A, 7 SW2B, 8 SW2A, 9 SW1B, 10 SW1A, 11 SW0B, 12 SW0A, 13 GND, 14 NC, 15 VDD, 16 VSS, 17 DGND, 18 VLL, 19 DIN, 20 CLK, 21 LE, 22 CLR, 23 DOUT, 24 RGND, 25 SW15B, 26 SW15A, 27 SW14B, 28 SW14A, 29 SW13B, 30 SW13A, 31 SW12B, 32 SW12A, 33 SW11B, 34 SW11A, 35 NC, 36 NC, 37 SW10B, 38 SW10A, 39 SW9B, 40 SW9A, 41 SW8B, 42 SW8A, 43 SW7B, 44 SW7A, 45 SW6B, 46 SW6A, 47 SW5B, 48 SW5A

## LSHM-120-02.5-L-DV-A-N-K-TR
designator J?
Conn Socket and Terminal Strip HDR/SKT 40 POS 0.5mm Solder ST SMD T/R; Manufacturer: Samtec; Number of Contacts: 40; Supplier 1: Digi-Key; RoHS: Yes; Category: Connectors; Stock 1: 3008; Pricing 1: 1=6.60000, 10=5.97000, 25=5.63960, 50=5.50200, 100=5.22690, 250=4.67672 (USD); Contact Plating: Gold; Contact Material: Bronze; Housing Color: Black; Housing Material: Polymer; Min Operating Temperature: -55°C; Max Operating Temperature: 125°C; Number of Rows: 2; Termination: Solder; Packaging: Tape and Reel; Orientation: Straight; Series: LSH; Length: 14.7mm; Pitch: 0.5mm; Depth: 4.98mm; Radiation Hardening: No; REACH SVHC: No SVHC; RoHS Compliant: Yes; ComponentLink1URL: http://www.farnell.com/datasheets/2372721.pdf?src-supplier=Farnell; ComponentLink1Description: http://www.farnell.com/datasheets/2372721.pdf?src-supplier=Farnell; ComponentLink2URL: http://www.farnell.com/datasheets/2000266.pdf?src-supplier=Farnell; ComponentLink2Description: http://www.farnell.com/datasheets/2000266.pdf?src-supplier=Farnell; ComponentLink3URL: http://components.arrow.com/part/dataview/0323_01943898?src-supplier=Arrow+Europe; ComponentLink3Description: http://components.arrow.com/part/dataview/0323_01943898?src-supplier=Arrow+Europe; ComponentLink4URL: http://components.arrow.com/part/dataview/48680868S8397842N1004?src-supplier=Arrow+Electronics; ComponentLink4Description: http://components.arrow.com/part/dataview/48680868S8397842N1004?src-supplier=Arrow+Electronics; ComponentLink5URL: http://www.farnell.com/datasheets/2000266.pdf?src-supplier=Element14; ComponentLink5Description: http://www.farnell.com/datasheets/2000266.pdf?src-supplier=Element14; ComponentLink6URL: http://suddendocs.samtec.com/prints/lshm-1xx-xx.x-xx-dv-a-x-x-tr-mkt.pdf?src-supplier=Digi-Key; ComponentLink6Description: http://suddendocs.samtec.com/prints/lshm-1xx-xx.x-xx-dv-a-x-x-tr-mkt.pdf?src-supplier=Digi-Key; ComponentLink7URL: ftp://ftp.samtec.com/webfiles/PDF/LSHM.PDF?src-supplier=Avnet; ComponentLink7Description: ftp://ftp.samtec.com/webfiles/PDF/LSHM.PDF?src-supplier=Avnet; ComponentLink8URL: ftp://ftp.samtec.com/webfiles/PDF/LSHM.PDF?src-supplier=Avnet+Europe; ComponentLink8Description: ftp://ftp.samtec.com/webfiles/PDF/LSHM.PDF?src-supplier=Avnet+Europe; ComponentLink9URL: http://www.farnell.com/datasheets/2372721.pdf?src-supplier=Newark; ComponentLink9Description: http://www.farnell.com/datasheets/2372721.pdf?src-supplier=Newark; Supplier Part Number 1: SAM13196CT-ND; Manufacturer Part Number: LSHM-120-02.5-L-DV-A-N-K-TR
footprint SAMTEC_LSHM-120-XX.X-X-DV-A-N-XX
footprint SAMTEC_LSHM-120-XX.X-X-DV-A-N-XX
pins: 01, 02, 03, 04, 05, 06, 07, 08, 09, 10, 11, 12, 13, 14, 15, 16, 17, 18, 19, 20, 21, 22, 23, 24, 25, 26, 27, 28, 29, 30, 31, 32, 33, 34, 35, 36, 37, 38, 39, 40

## MD0101K6-G
designator U?
No Description Available; Mfr_Name: Microchip; Copyright: Copyright (C) 2022 Ultra Librarian. All rights reserved.; Manufacturer_Part_Number: MD0101K6-G; RefDes: RefDes; Type: DEV
footprint DFN18_5X5_MCH
footprint DFN18_5X5_MCH
pins: 1 NC, 2 TX1 (io), 3 NC, 4 TX2 (io), 5 NC, 6 TX3 (io), 7 NC, 8 TX4 (io), 9 NC, 10 RGND4, 11 RX4 (io), 12 RGND3, 13 RX3 (io), 14 RGND2, 15 RX2 (io), 16 RGND1, 17 RX1 (io), 18 NC, 19 EPAD

## TC2320
designator U?, comment TC2320TG-G
8L SOIC N-Channel and P-Channel Enhancement-Mode Dual MOSFET
footprint SOIC127P599X173-8N
pins: 1 SN (power), 2 GN (power), 3 SP (power), 4 GP (oc), 5 DP (power), 6 DP (power), 7 DN (power), 8 DN (power)

## TC2320_1
designator U?, comment TC6320K6-G
8L SOIC N-Channel and P-Channel Enhancement-Mode Dual MOSFET
footprint SOIC127P599X173-8N
pins: 1 SN (power), 2 GN (power), 3 SP (power), 4 GP (oc), 5 DP (power), 6 DP (power), 7 DN (power), 8 DN (power)

## TSV6291AILT
designator U?
TVS6291A Series 5.5 V 1.3 MHz Single CMOS Operational Amplifier - SOT-23-5
footprint SOT95P280X145-5N
pins: 1 (in), 2 (power), 3 (in), 4 (power), 5 (power)
text: +; _

## UCC27537
designator U?
5P SOT-23 DBV MOSFET IGBT Single-Gate-Driver
footprint SOT95P280X145-5N
pins: 1 EN (power), 2 GND (power), 3 IN+ (power), 4 OUT (power), 5 VDD (power)

## ZHCS400QTA
designator D?
Diode Schottky 40V 1A Automotive 2-Pin SOD-323 T/R; Manufacturer: Diodes; Supplier 1: Farnell; RoHS: Yes; Category: Rectifier Diodes; Stock 1: 385; Pricing 1: 5=0.87300, 10=0.73400, 100=0.49400, 500=0.38800 (CHF); Mount: Surface Mount; Packaging: Tape and Reel; Average Rectified Current: 1A; Max Reverse Voltage (DC): 40V; RoHS Compliant: Yes; ComponentLink1URL: http://www.mouser.com/ds/2/115/ZHCS400Q-959646.pdf?src-supplier=Mouser; ComponentLink1Description: http://www.mouser.com/ds/2/115/ZHCS400Q-959646.pdf?src-supplier=Mouser; Supplier Part Number 1: 3127490; Manufacturer Part Number: ZHCS400QTA
footprint DIODE_SOD323_DIO
footprint DIODE_SOD323_DIO
pins: 1, 2